# EAGLE library part 62501421621 (library Wuerth_Elektronik_eiCan_05_Box_Header_IDC_Connectors_1_2)
WR-BHD 2.00mm Male Box Header, 14 pins
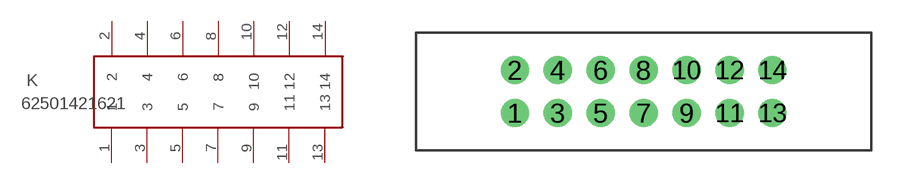
[diagram p1: symbol with the pads of 62501421621; footprint 62501421621]

Designator prefix K

## 62501421621  [62501421621]
1  1  pas
2  2  pas
3  3  pas
4  4  pas
5  5  pas
6  6  pas
7  7  pas
8  8  pas
9  9  pas
10  10  pas
11  11  pas
12  12  pas
13  13  pas
14  14  pas

## Footprint 62501421621 (pad centres in mm)
WR-BHD 2.00mm Male Box Header, 14 pins
drill 0.8: 1 -4,-1; 2 -4,1; 3 -2,-1; 4 -2,1; 5 0,-1; 6 0,1; 7 2,-1; 8 2,1; 9 4,-1; 10 4,1; 11 6,-1; 12 6,1; 13 8,-1; 14 8,1